# Altium schematic symbol library Connector.SchLib: 21 symbols
Pins are listed as number, name and electrical type; pins without a type are passive.

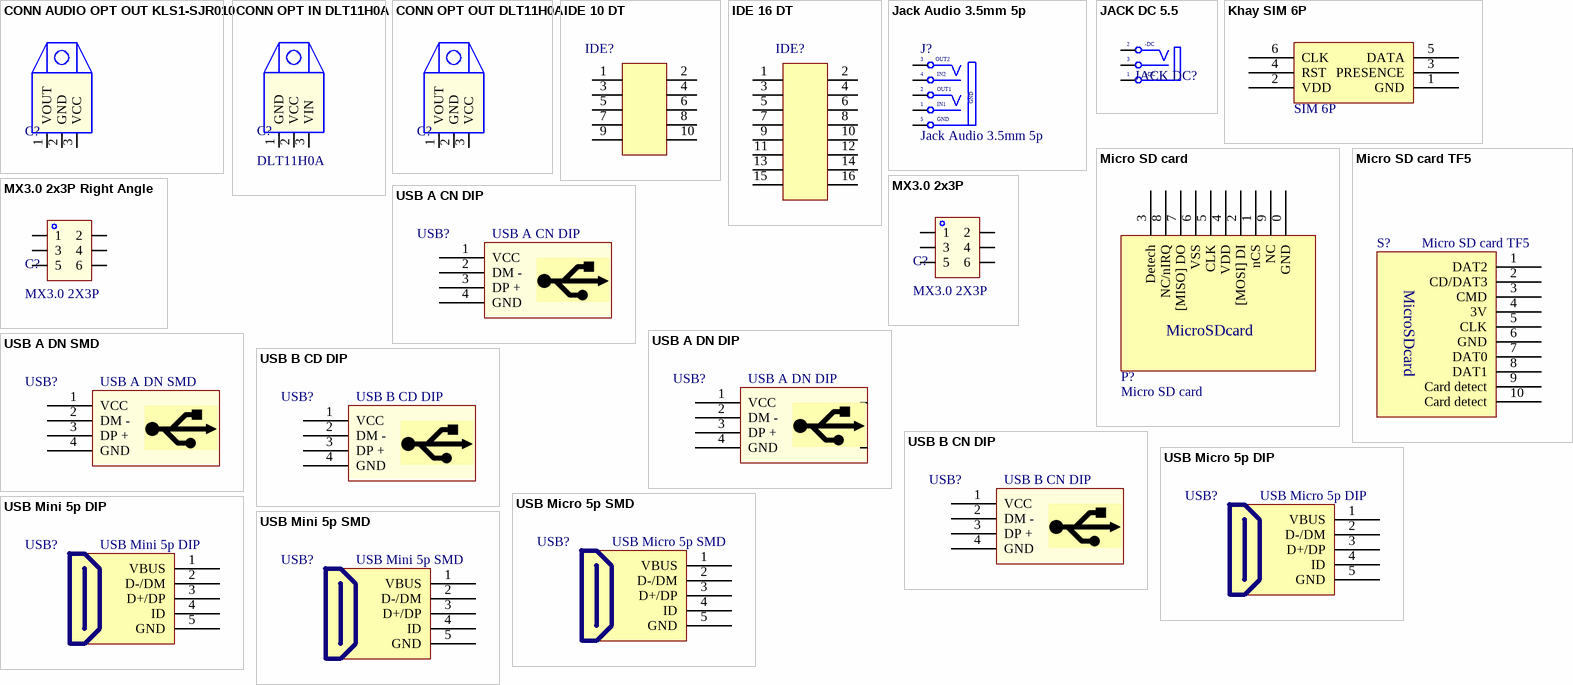
[diagram p0: symbols CONN AUDIO OPT OUT KLS1-SJR010 to USB Mini 5p SMD]

## CONN AUDIO OPT OUT KLS1-SJR010
designator C?, comment KLS1-SJR010  (value not drawn)
footprint CONN AUDIO OPT KLS1-SJR010
pins: 1 VOUT, 2 GND, 3 VCC

## CONN OPT IN DLT11H0A
designator C?, comment DLT11H0A
footprint CONN AUDIO OPT DLT11H0
pins: 1 GND, 2 VCC, 3 VIN

## CONN OPT OUT DLT11H0A
designator C?, comment KLS1-SJR010  (value not drawn)
footprint CONN AUDIO OPT KLS1-SJR010
pins: 1 VOUT, 2 GND, 3 VCC

## IDE 10 DT
designator IDE?, comment IDE10  (value not drawn)
footprint IDE 10 DT (Connector; Header; 5x2 Position)
pins: 1, 2, 3, 4, 5, 6, 7, 8, 9, 10

## IDE 16 DT
designator IDE?, comment IDE16  (value not drawn)
footprint IDE16 DT
pins: 1, 2, 3, 4, 5, 6, 7, 8, 9, 10, 11, 12, 13, 14, 15 14, 16 14

## Jack Audio 3.5mm 5p
designator J?
Jack Audio 3.5mm 5p stereo; Creat by: VanDungEvn@Gmail.com
footprint JACK Audio 3.5mm 5p
pins: 1 S1 (power) "Sleeve (Ground)", 2 S1 "Tip Normal (Break Contact)", 3 TN "Tip Normal (Break Contact)", 4 S (power) "Sleeve (Ground)", 5 GND "Tip"
text: OUT2; IN2; OUT1; IN1

## JACK DC 5.5
designator JACK DC?
JACK DC 5.5; Value: Jac DC
footprint JACK DC 5.5 (Jac DC input)
pins: 1 T "Tip", 2 TN "Tip Normal (Break Contact)", 3 S (power) "Sleeve (Ground)"
text: -DC; +DC

## Khay SIM 6P
designator SIM?, comment SIM 6P
footprint sim6
pins: 1 GND, 2 VDD, 3 PRESENCE, 4 RST, 5 DATA, 6 CLK

## Micro SD card
designator P?
footprint MicroSD
pins: 0 GND, 1 nCS, 2 [MOSI] DI, 3 Detech, 4 VDD, 5 CLK, 6 VSS, 7 [MISO] DO, 8 NC/nIRQ, 9 NC
text: MicroSDcard

## Micro SD card TF5
designator S?
footprint MicroSD TF V5
pins: 1 DAT2, 2 CD/DAT3, 3 CMD, 4 3V, 5 CLK, 6 GND, 7 DAT0, 8 DAT1, 9 Card detect, 10 Card detect
text: MicroSDcard

## MX3.0 2x3P
designator C?, comment MX3.0 2X3P
HC-MX3.0-2*3AW; JLCPCB Part #: C3294384
footprint MX3.0 2x3p
pins: 1, 2, 3, 4, 5, 6

## MX3.0 2x3P Right Angle
designator C?, comment MX3.0 2X3P
HC-MX3.0-2*3AW; JLCPCB Part #: C3294384
footprint MX3.0 2x3p Right Angle
pins: 1, 2, 3, 4, 5, 6

## USB A CN DIP
designator USB?
USB Type A; Ten: USB A Cái DIP; Ma_Hang: MH000941
footprint USB A CN DIP (THT, USB 2.0 A Connector, 4Pin, Body 15.8 x14.5mm)
pins: 1 VCC, 2 DM -, 3 DP +, 4 GND

## USB A DN DIP
designator USB?
USB Type A; Ten: USB A Đực DIP; Ma_Hang: MH000940
footprint USB A DN DIP
pins: 1 VCC, 2 DM -, 3 DP +, 4 GND, 5, 6

## USB A DN SMD
designator USB?
USB Type A; Ten: USB A Đực SMD USB-A-S01; Ma_Hang: MH000938
footprint USB A DN SMD (For USB SMD)
pins: 1 VCC, 2 DM -, 3 DP +, 4 GND

## USB B CD DIP
designator USB?
USB Type B; Ten: USB B Cái 180 (Loại Đứng); Ma_Hang: MH007927
footprint USB B CD DIP
pins: 1 VCC, 2 DM -, 3 DP +, 4 GND

## USB B CN DIP
designator USB?
USB Type B; Ten: USB B Cái DIP; Ma_Hang: MH000939
footprint USB B CN DIP
pins: 1 VCC, 2 DM -, 3 DP +, 4 GND

## USB Micro 5p DIP
designator USB?
USB Type B; Ten: MicroUSB MK5P DIP; Ma_Hang: MH005145
footprint USB Micro 5p DIP
pins: 1 VBUS, 2 D-/DM, 3 D+/DP, 4 ID, 5 GND

## USB Micro 5p SMD
designator USB?
USB Type B; Ten: MicroUSB MK5P SMD; Ma_Hang: MH001020
footprint USB Micro 5p SMD
pins: 1 VBUS, 2 D-/DM, 3 D+/DP, 4 ID, 5 GND

## USB Mini 5p DIP
designator USB?
USB Type B; Ten: MiniUSB 5P DIP; Ma_Hang: MH001021
footprint USB Mini 5p DIP
pins: 1 VBUS, 2 D-/DM, 3 D+/DP, 4 ID, 5 GND

## USB Mini 5p SMD
designator USB?
USB Type B; Ten: MiniUSB 5P SMD; Ma_Hang: MH001022
footprint USB Mini 5p SMD
pins: 1 VBUS, 2 D-/DM, 3 D+/DP, 4 ID, 5 GND